# Altium schematic symbol library CONMHF4-SMD-G-T.SchLib: 1 symbol
Pins are listed as number, name and electrical type; pins without a type are passive.

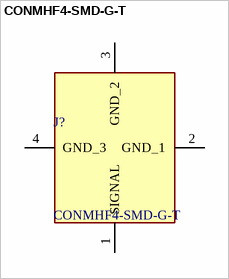
[diagram p0: symbol CONMHF4-SMD-G-T]

## CONMHF4-SMD-G-T
designator J?
Body Features: Body Material Copper Alloy | Body Plating Material Gold | Configuration Features: Number of Coaxial Contacts 1 | Number of Positions 1 | Electrical Characteristics: Impedance 50 OHM | Mechanical Attachment: Connector Mounting Type Board Mount | RF Connector Coupling Mechanism Snap-On | Operation/Application: Operating Frequency 6 GHZ | Circuit Application Signal | Other: Dielectric Material LCP | Product Type Features: Sealable No | RF Interface UMCC | Connector Product Type Connector Assembl; Manufacturer_Name: TE Connectivity; Geometry.Height: 0.6mm; Mouser Part Number: N/A; Mouser Price/Stock: https://www.mouser.co.uk/ProductDetail/TE-Connectivity/CONMHF4-SMD-G-T?qs=3Rah4i%252BhyCHAjcyagtfN7A%3D%3D; Manufacturer_Part_Number: CONMHF4-SMD-G-T; Datasheet Link: https://www.te.com/commerce/DocumentDelivery/DDEController?Action=srchrtrv&DocNm=conmhf4-smd-g-t-ds&DocType=Data%20Sheet&DocLang=English&PartCntxt=CONMHF4-SMD-G-T&DocFormat=pdf
footprint CONMHF4SMDGT
pins: 1 SIGNAL, 2 GND_1, 3 GND_2, 4 GND_3